# Altium footprint library KEYSTONE_5000.PcbLib: 1 footprints
Each footprint in its own frame and in the unit in brackets; x right, y up, seen from the top. Pads: shape width x height; smd on the part's side, far side on the other; paste and mask are expansions set on the pad; w line width, h text height; cw(c..) or ccw(c..) is an arc to the next point about the centre after c.
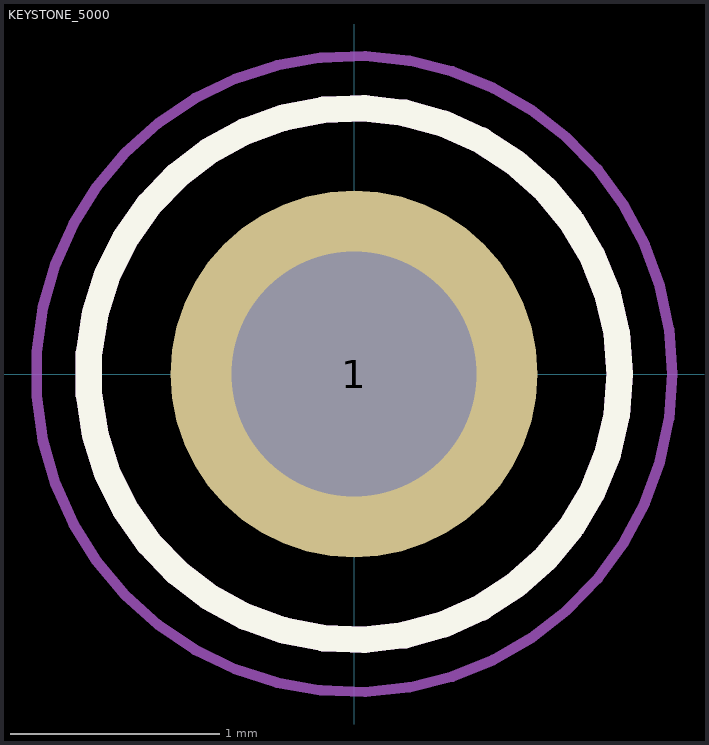
[diagram p0: the footprint, top view; thin cyan lines are the x and y axes]

## KEYSTONE_5000 [mm]
pads (1):
  round 1.755 hole 1.17: 1(0,0)
Top Overlay:
  circle w0.127: c0,0 r1.27
Mechanical 13:
  circle w0.127: c0,0 r1.27
Mechanical 15:
  circle w0.05: c0,0 r1.52